# EAGLE library part ICL7663SCPAZ (library Intersil_By_element14_Batch_1)
Voltage Regulator
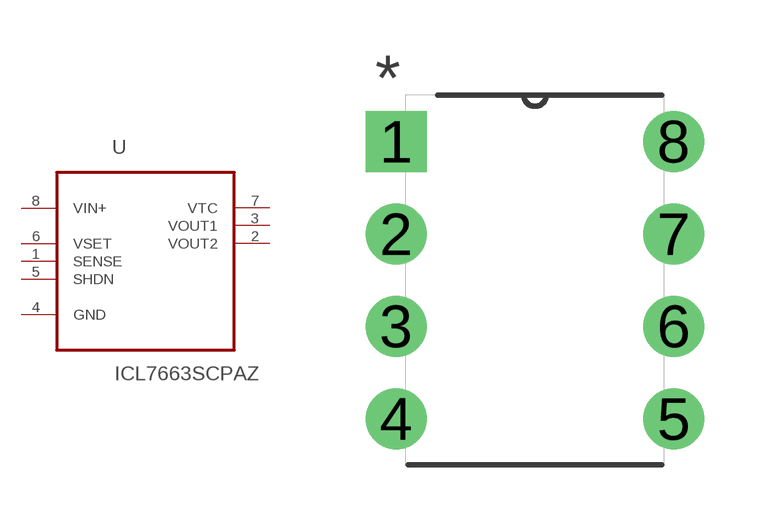
[diagram p191: symbol with the pads of DIP254P762X533-8; footprint DIP254P762X533-8]

Designator prefix U

## ICL7663SCPAZ (MPN: ICL7663SCPAZ; OC_FARNELL: 1018173; OC_NEWARK: 57K3893; PACKAGE: PDIP-8; SUPPLIER: INTERSIL)  [DIP254P762X533-8]
1  SENSE  in
2  VOUT2  out
3  VOUT1  out
4  GND  pas
5  SHDN  in
6  VSET  in
7  VTC  pas
8  VIN+  pwr

## Footprint DIP254P762X533-8 (pad centres in mm)
drill 1.118 square: 1 -7.62,7.62
drill 1.118: 2 -7.62,5.08; 3 -7.62,2.54; 4 -7.62,0; 5 0,0; 6 0,2.54; 7 0,5.08; 8 0,7.62